# Altium integrated library 5025850470.IntLib: 1 symbol
Pins are listed as number, name and electrical type; pins without a type are passive.

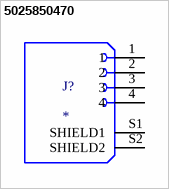
[diagram p0: symbol 5025850470]

## 5025850470
designator J?
1.50mm Pitch, CLIK-Mate PCB Receptacle, Single Row, Surface Mount, Right-Angle, Tin Plating, Positive Lock, 4 Circuits, Natural; MF: Molex; MP: 5025850470; Package: None; Check_prices: https://www.snapeda.com/parts/5025850470/Molex/view-part/?ref=eda; SnapEDA_Link: https://www.snapeda.com/parts/5025850470/Molex/view-part/?ref=snap; Purchase-URL: https://pricing.snapeda.com/search/part/5025850470/?ref=eda; Value: *; Digi-Key_Part_Number: WM9449TR-ND
footprint MOLEX_5025850470
pins: 1, 2, 3, 4, S1 SHIELD1, S2 SHIELD2